# Altium schematic symbol library 2016-03-26_18-23-46.SchLib: 23 symbols
Pins are listed as number, name and electrical type; pins without a type are passive.

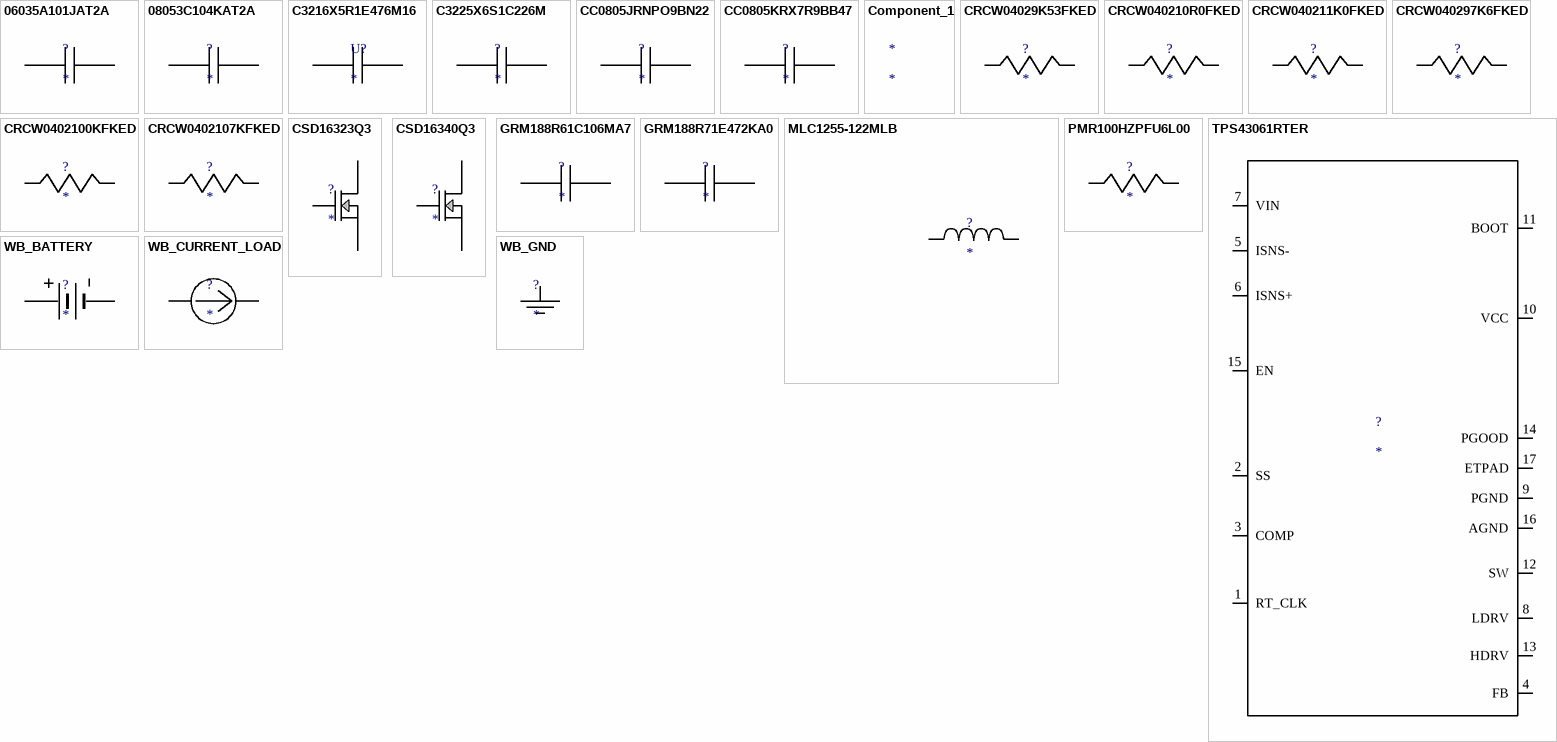
[diagram p0: symbols 06035A101JAT2A to WB_GND]

## 06035A101JAT2A
designator ?
Imported; Manufacturer_Part_Number: 06035A101JAT2A; Vendor: AVX; Manufacturer_Name: AVX; RefDes: RefDes; TYPE: TYPE; Value: Value
footprint 0603
pins: 1, 2

## 08053C104KAT2A
designator ?
Imported; Manufacturer_Part_Number: 08053C104KAT2A; Vendor: AVX; Manufacturer_Name: AVX; RefDes: RefDes; TYPE: TYPE; Value: Value
footprint 0805
pins: 1, 2

## C3216X5R1E476M16
designator U?
Imported; Manufacturer_Part_Number: C3216X5R1E476M160AC; Manufacturer_Name: TDK; Cap_F: 0.000047; VDC_V: 25; RoHS: Y; MountType: SMT; RefDes: RefDes; TYPE: TYPE; Value: Value
footprint 1206_190
pins: 1, 2

## C3225X6S1C226M
designator ?
Imported; Manufacturer_Part_Number: C3225X6S1C226M; Vendor: TDK; Manufacturer_Name: TDK; RefDes: RefDes; TYPE: TYPE; Value: Value
footprint 1210
pins: 1, 2

## CC0805JRNPO9BN22
designator ?
Imported; Manufacturer_Part_Number: CC0805JRNPO9BN221; Vendor: Yageo America; Manufacturer_Name: Yageo America; RefDes: RefDes; TYPE: TYPE; Value: Value
footprint 0805
pins: 1, 2

## CC0805KRX7R9BB47
designator ?
Imported; Manufacturer_Part_Number: CC0805KRX7R9BB472; Vendor: Yageo America; Manufacturer_Name: Yageo America; RefDes: RefDes; TYPE: TYPE; Value: Value
footprint 0805
pins: 1, 2

## Component_1
designator *

## CRCW04029K53FKED
designator ?
Imported; Manufacturer_Part_Number: CRCW04029K53FKED; Vendor: Vishay-Dale; Manufacturer_Name: Vishay-Dale; RefDes: RefDes; TYPE: TYPE; Value: Value
footprint 0402
pins: 1, 2

## CRCW040210R0FKED
designator ?
Imported; Manufacturer_Part_Number: CRCW040210R0FKED; Vendor: Vishay-Dale; Manufacturer_Name: Vishay-Dale; RefDes: RefDes; TYPE: TYPE; Value: Value
footprint 0402
pins: 1, 2

## CRCW040211K0FKED
designator ?
Imported; Manufacturer_Part_Number: CRCW040211K0FKED; Vendor: Vishay-Dale; Manufacturer_Name: Vishay-Dale; RefDes: RefDes; TYPE: TYPE; Value: Value
footprint 0402
pins: 1, 2

## CRCW040297K6FKED
designator ?
Imported; Manufacturer_Part_Number: CRCW040297K6FKED; Vendor: Vishay-Dale; Manufacturer_Name: Vishay-Dale; RefDes: RefDes; TYPE: TYPE; Value: Value
footprint 0402
pins: 1, 2

## CRCW0402100KFKED
designator ?
Imported; Manufacturer_Part_Number: CRCW0402100KFKED; Vendor: Vishay-Dale; Manufacturer_Name: Vishay-Dale; RefDes: RefDes; TYPE: TYPE; Value: Value
footprint 0402
pins: 1, 2

## CRCW0402107KFKED
designator ?
Imported; Manufacturer_Part_Number: CRCW0402107KFKED; Vendor: Vishay-Dale; Manufacturer_Name: Vishay-Dale; RefDes: RefDes; TYPE: TYPE; Value: Value
footprint 0402
pins: 1, 2

## CSD16323Q3
designator ?
Imported; Manufacturer_Part_Number: CSD16323Q3; Vendor: Texas Instruments; Manufacturer_Name: Texas Instruments; RefDes: RefDes; TYPE: TYPE; Value: Value
footprint TRANS_NexFET_Q3
pins: 1 Source, 2 Source, 3 Source, 4 Gate, 5 Drain, 6 Drain, 7 Drain, 8 Drain, 9 Drain

## CSD16340Q3
designator ?
Imported; Manufacturer_Part_Number: CSD16340Q3; Vendor: Texas Instruments; Manufacturer_Name: Texas Instruments; RefDes: RefDes; TYPE: TYPE; Value: Value
footprint TRANS_NexFET_Q3
pins: 1 Source, 2 Source, 3 Source, 4 Gate, 5 Drain, 6 Drain, 7 Drain, 8 Drain, 9 Drain

## GRM188R61C106MA7
designator ?
Imported; Manufacturer_Part_Number: GRM188R61C106MA73D; Cap: 1.0E-5; ESR: 0; VDC: 16; Vendor: Murata; IRMS: 0; Manufacturer_Name: MuRata; RefDes: RefDes; TYPE: TYPE; Value: Value
footprint 0603
pins: 1, 2

## GRM188R71E472KA0
designator ?
Imported; Manufacturer_Part_Number: GRM188R71E472KA01D; Vendor: MuRata; Manufacturer_Name: MuRata; RefDes: RefDes; TYPE: TYPE; Value: Value
footprint 0603
pins: 1, 2

## MLC1255-122MLB
designator ?
Imported; Manufacturer_Part_Number: MLC1255-122MLB; Vendor: Coilcraft; Manufacturer_Name: Coilcraft; RefDes: RefDes; TYPE: TYPE; Value: Value
footprint MLC1255
pins: 1, 2

## PMR100HZPFU6L00
designator ?
Imported; Manufacturer_Part_Number: PMR100HZPFU6L00; Vendor: Rohm; Manufacturer_Name: Rohm; RefDes: RefDes; TYPE: TYPE; Value: Value
footprint 2512
pins: 1, 2

## TPS43061RTER
designator ?
Imported; Manufacturer_Part_Number: TPS43061RTER; Vendor: Texas Instruments; Manufacturer_Name: Texas Instruments; RefDes: RefDes; TYPE: TYPE; Value: Value
footprint S-PVQFN-N16
pins: 1 RT_CLK, 2 SS, 3 COMP, 4 FB, 5 ISNS-, 6 ISNS+, 7 VIN, 8 LDRV, 9 PGND, 10 VCC, 11 BOOT, 12 SW, 13 HDRV, 14 PGOOD, 15 EN, 16 AGND, 17 ETPAD

## WB_BATTERY
designator ?
Imported; Manufacturer_Part_Number: WB_BATTERY; PowerPortType: POWER_GROUND; Value: Value; Manufacturer_Name: WB_BATTERY; RefDes: RefDes; TYPE: TYPE
pins: 1 +, 2 -

## WB_CURRENT_LOAD
designator ?
Imported; Manufacturer_Part_Number: WB_CURRENT_LOAD; PowerPortType: POWER_GROUND; Value: Value; Manufacturer_Name: WB_CURRENT_LOAD; RefDes: RefDes; TYPE: TYPE
pins: 1 +, 2 -

## WB_GND
designator ?
Imported; Manufacturer_Part_Number: WB_GND; PowerPortType: POWER_GROUND; Value: Value; Manufacturer_Name: WB_GND; RefDes: RefDes; TYPE: TYPE
pins: 1